# EAGLE library part 692121430000 (library WR-USB)
WR-USB Standard Connectors Characteristics Widely used Type-A and Type-B connectors, available in different orientation Various mount types: SMT, THT, THR Pin configuration: 4 pins for USB 2.0 / 9 pins for USB 3.x Durable and backward compatible with older USB versions UL, TID listing for USB standards Applications Office and desktop computing systems Industrial control and automation equipment Consumer electronics and peripherals Audio-visual and broadcast systems Details see: www.we-online.com/en/components/products/INPUT_OUTPUT_WR_USB_STANDARD Updated by Ella 2024-05-21 2024 (C) Würth Elektronik
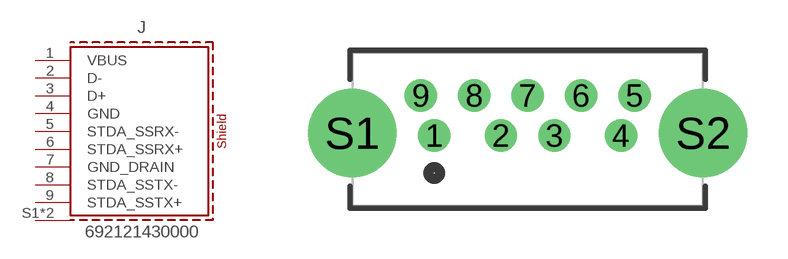
[diagram p5: symbol with the pads of 692121430000; footprint 692121430000]

Designator prefix J

## 692121430000 (APPLICATION: USB 3.0; DATASHEET: https://www.we-online.com/redexpert/spec/692121430000?ae; GERDER: Receptacle; INTERFACE-TYPE: Type A; IR: 1.8 A; MOUNT: THT; PACKAGING: Tray; PART-NUMBER: 692121430000; PCB-THICKNESS: 1.6 mm; PINS: 9pcs; TYPE: Vertical; VALUE: 692121430000; WORKING-VOLTAGE: 30 V (AC))  [692121430000]
1  VBUS  pas
2  D-  pas
3  D+  pas
4  GND  pas
5  STDA_SSRX-  pas
6  STDA_SSRX+  pas
7  GND_DRAIN  pas
8  STDA_SSTX-  pas
9  STDA_SSTX+  pas
S1  SHIELD  pas
S2  SHIELD  pas

## Footprint 692121430000 (pad centres in mm)
WR-USB Standard Connectors USB 3.0, Type A, Vertical THT, 9Pins, PCB Thickness:1.6 mm
drill 0.7: 1 -3.5,-0.24; 2 -1,-0.24; 3 1,-0.24; 4 3.5,-0.24; 5 4,1.26; 6 2,1.26; 7 0,1.26; 8 -2,1.26; 9 -4,1.26
drill 2.3: S1 -6.57,-0.14; S2 6.57,-0.14